# Altium schematic symbol library SIP32510DT-T1-GE3.SchLib: 2 symbols
Pins are listed as number, name and electrical type; pins without a type are passive.

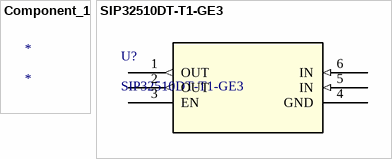
[diagram p0: symbols Component_1 to SIP32510DT-T1-GE3]

## Component_1
designator *

## SIP32510DT-T1-GE3
designator U?
No Description Available; Mfr_Name: Vishay; Copyright: Copyright (C) 2024 Ultra Librarian. All rights reserved.; Manufacturer_Part_Number: SIP32510DT-T1-GE3; RefDes: RefDes; Type: DEV
footprint SIP32510DT-T1-GE3_VIS
pins: 1 OUT (out), 2 OUT (out), 3 EN, 4 GND (power), 5 IN (in), 6 IN (in)